# Altium schematic symbol library Conn_JST_S4B-PH-SM4-TB_LF_SN_eec.SchLib: 1 symbol
Pins are listed as number, name and electrical type; pins without a type are passive.

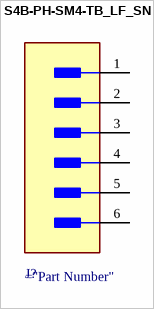
[diagram p0: symbol S4B-PH-SM4-TB_LF_SN]

## S4B-PH-SM4-TB_LF_SN
designator J?  (value not drawn)
pins: 1, 2, 3, 4, 5 MNT 1, 6 MNT 2